# Altium schematic symbol library HK32L08x-EVAL.SchLib: 11 symbols
Pins are listed as number, name and electrical type; pins without a type are passive.

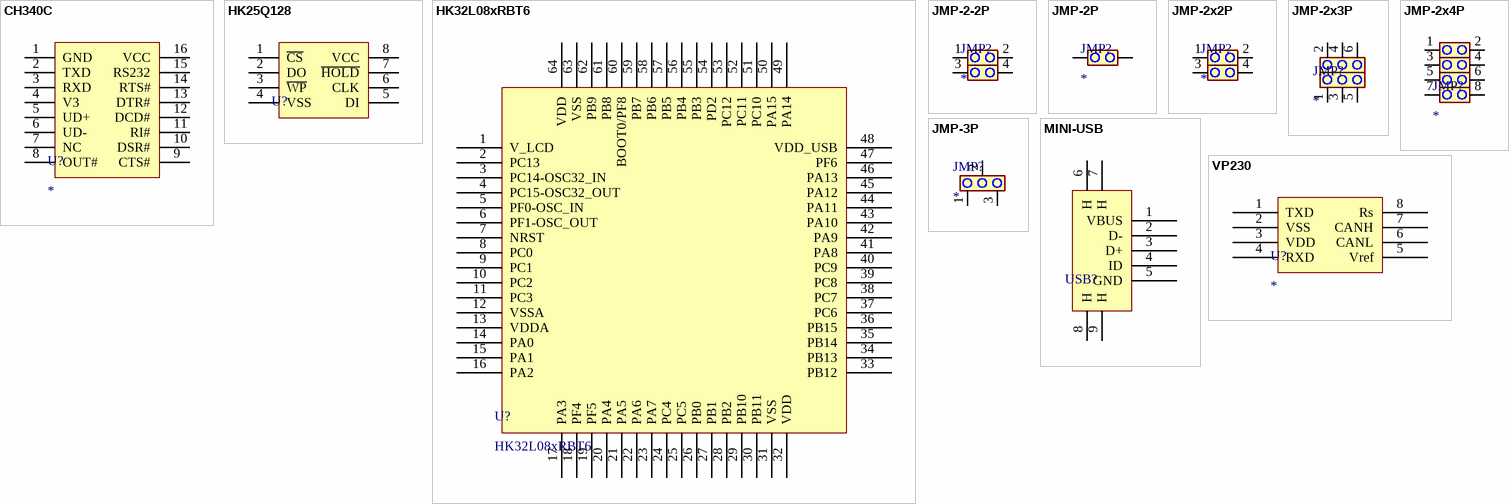
[diagram p0: symbols CH340C to VP230]

## CH340C
designator U?
pins: 1 GND, 2 TXD, 3 RXD, 4 V3, 5 UD+, 6 UD-, 7 NC, 8 OUT#, 9 CTS#, 10 DSR#, 11 RI#, 12 DCD#, 13 DTR#, 14 RTS#, 15 RS232, 16 VCC

## HK25Q128
designator U?  (value not drawn)
pins: 1 ~{CS}, 2 DO, 3 ~{WP}, 4 VSS, 5 DI, 6 CLK, 7 ~{HOLD}, 8 VCC

## HK32L08xRBT6
designator U?
pins: 1 V_LCD, 2 PC13, 3 PC14-OSC32_IN, 4 PC15-OSC32_OUT, 5 PF0-OSC_IN, 6 PF1-OSC_OUT, 7 NRST, 8 PC0, 9 PC1, 10 PC2, 11 PC3, 12 VSSA, 13 VDDA, 14 PA0, 15 PA1, 16 PA2, 17 PA3, 18 PF4, 19 PF5, 20 PA4, 21 PA5, 22 PA6, 23 PA7, 24 PC4, 25 PC5, 26 PB0, 27 PB1, 28 PB2, 29 PB10, 30 PB11, 31 VSS, 32 VDD, 33 PB12, 34 PB13, 35 PB14, 36 PB15, 37 PC6, 38 PC7, 39 PC8, 40 PC9, 41 PA8, 42 PA9, 43 PA10, 44 PA11, 45 PA12, 46 PA13, 47 PF6, 48 VDD_USB, 49 PA14, 50 PA15, 51 PC10, 52 PC11, 53 PC12, 54 PD2, 55 PB3, 56 PB4, 57 PB5, 58 PB6, 59 PB7, 60 BOOT0/PF8, 61 PB8, 62 PB9, 63 VSS, 64 VDD

## JMP-2-2P
designator JMP?
pins: 1, 2, 3, 4

## JMP-2P
designator JMP?
pins: 1, 2

## JMP-2x2P
designator JMP?
pins: 1, 2, 3, 4

## JMP-2x3P
designator JMP?
pins: 1, 2, 3, 4, 5, 6

## JMP-2x4P
designator JMP?
pins: 1, 2, 3, 4, 5, 6, 7, 8

## JMP-3P
designator JMP?
pins: 1, 2, 3

## MINI-USB
designator USB?  (value not drawn)
pins: 1 VBUS, 2 D-, 3 D+, 4 ID, 5 GND, 6 H, 7 H, 8 H, 9 H

## VP230
designator U?
pins: 1 TXD, 2 VSS, 3 VDD, 4 RXD, 5 Vref, 6 CANL, 7 CANH, 8 Rs